# EAGLE library part MAX17504ATP+T (library pi3_hat)
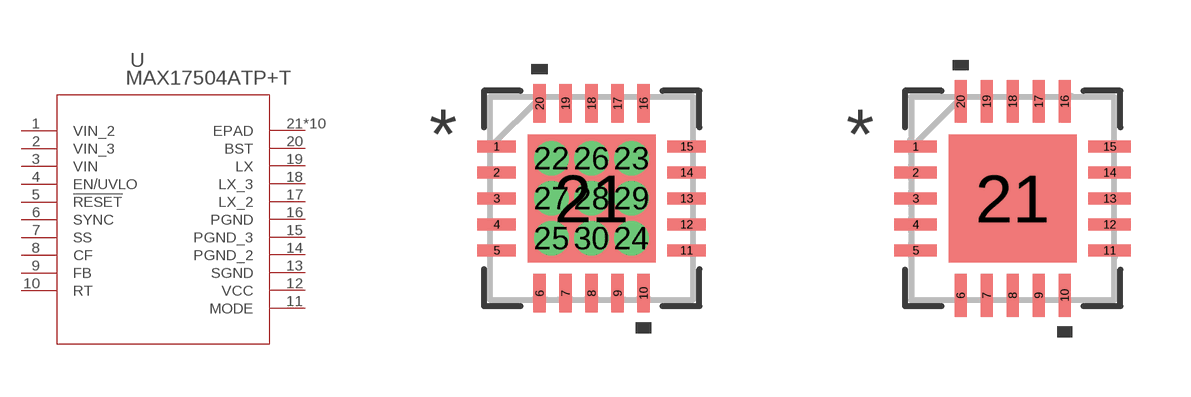
[diagram p13: symbol with the pads of 21-0140L_T2055-4_MXM; footprints 21-0140L_T2055-4_MXM, 21-0140L_T2055-4_MXM-M]

Designator prefix U

## MAX17504ATP+T (BUILT_BY: EMA_UL_Team; COPYRIGHT: Copyright (C) 2018 Accelerated Designs. All rights reserved; MANUFACTURER_PART_NUMBER: MAX17504ATP+T; REVISION: 1; SOURCELIBRARY: Maxim_2018-11-30; VENDOR: Maxim Integrated Products)  [21-0140L_T2055-4_MXM]
1  VIN_2  pas
2  VIN_3  pas
3  VIN  pas
4  EN/UVLO  pas
5  !RESET  pas
6  SYNC  pas
7  SS  pas
8  CF  pas
9  FB  pas
10  RT  pas
11  MODE  pas
12  VCC  pwr
13  SGND  pas
14  PGND_2  pas
15  PGND_3  pas
16  PGND  pas
17  LX_2  pas
18  LX_3  pas
19  LX  pas
20  BST  pas
21  EPAD  pas
22  EPAD  pas
23  EPAD  pas
24  EPAD  pas
25  EPAD  pas
26  EPAD  pas
27  EPAD  pas
28  EPAD  pas
29  EPAD  pas
30  EPAD  pas

## MAX17504ATP+T21-0140L_T2055-4_MXM-M (BUILT_BY: EMA_UL_Team; COPYRIGHT: Copyright (C) 2018 Accelerated Designs. All rights reserved; MANUFACTURER_PART_NUMBER: MAX17504ATP+T; REVISION: 1; SOURCELIBRARY: Maxim_2018-11-30; VENDOR: Maxim Integrated Products)  [21-0140L_T2055-4_MXM-M]
1  VIN_2  pas
2  VIN_3  pas
3  VIN  pas
4  EN/UVLO  pas
5  !RESET  pas
6  SYNC  pas
7  SS  pas
8  CF  pas
9  FB  pas
10  RT  pas
11  MODE  pas
12  VCC  pwr
13  SGND  pas
14  PGND_2  pas
15  PGND_3  pas
16  PGND  pas
17  LX_2  pas
18  LX_3  pas
19  LX  pas
20  BST  pas
21  EPAD  pas

## MAX17504ATP+T21-0140L_T2055-4_MXM-L (BUILT_BY: EMA_UL_Team; COPYRIGHT: Copyright (C) 2018 Accelerated Designs. All rights reserved; MANUFACTURER_PART_NUMBER: MAX17504ATP+T; REVISION: 1; SOURCELIBRARY: Maxim_2018-11-30; VENDOR: Maxim Integrated Products)  [21-0140L_T2055-4_MXM-L]
Pads as for 21-0140L_T2055-4_MXM-M

## Footprint 21-0140L_T2055-4_MXM (pad centres in mm)
smd 0.965 x 0.305: 1 -2.375,1.3; 2 -2.375,0.65; 3 -2.375,0; 4 -2.375,-0.65; 5 -2.375,-1.3; 11 2.375,-1.3; 12 2.375,-0.65; 13 2.375,0; 14 2.375,0.65; 15 2.375,1.3
smd 0.305 x 0.965: 6 -1.3,-2.375; 7 -0.65,-2.375; 8 0,-2.375; 9 0.65,-2.375; 10 1.3,-2.375; 16 1.3,2.375; 17 0.65,2.375; 18 0,2.375; 19 -0.65,2.375; 20 -1.3,2.375
smd 3.2 x 3.2: 21 0,0
drill 0.35: 22 -1,1; 23 1,1; 24 1,-1; 25 -1,-1; 26 0,1; 27 -1,0; 28 0,0; 29 1,0; 30 0,-1

## Footprint 21-0140L_T2055-4_MXM-M (pad centres in mm)
smd 1.067 x 0.305: 1 -2.426,1.3; 2 -2.426,0.65; 3 -2.426,0; 4 -2.426,-0.65; 5 -2.426,-1.3; 11 2.426,-1.3; 12 2.426,-0.65; 13 2.426,0; 14 2.426,0.65; 15 2.426,1.3
smd 0.305 x 1.067: 6 -1.3,-2.426; 7 -0.65,-2.426; 8 0,-2.426; 9 0.65,-2.426; 10 1.3,-2.426; 16 1.3,2.426; 17 0.65,2.426; 18 0,2.426; 19 -0.65,2.426; 20 -1.3,2.426
smd 3.2 x 3.2: 21 0,0

## Footprint 21-0140L_T2055-4_MXM-L (pad centres in mm)
smd 0.864 x 0.305: 1 -2.324,1.3; 2 -2.324,0.65; 3 -2.324,0; 4 -2.324,-0.65; 5 -2.324,-1.3; 11 2.324,-1.3; 12 2.324,-0.65; 13 2.324,0; 14 2.324,0.65; 15 2.324,1.3
smd 0.305 x 0.864: 6 -1.3,-2.324; 7 -0.65,-2.324; 8 0,-2.324; 9 0.65,-2.324; 10 1.3,-2.324; 16 1.3,2.324; 17 0.65,2.324; 18 0,2.324; 19 -0.65,2.324; 20 -1.3,2.324
smd 3.2 x 3.2: 21 0,0